# Altium footprint library EISI.PcbLib: 695 footprints (part 1 of 44)
Each footprint in its own frame and in the unit in brackets; x right, y up, seen from the top. Pads: shape width x height; smd on the part's side, far side on the other; paste and mask are expansions set on the pad; w line width, h text height; cw(c..) or ccw(c..) is an arc to the next point about the centre after c.
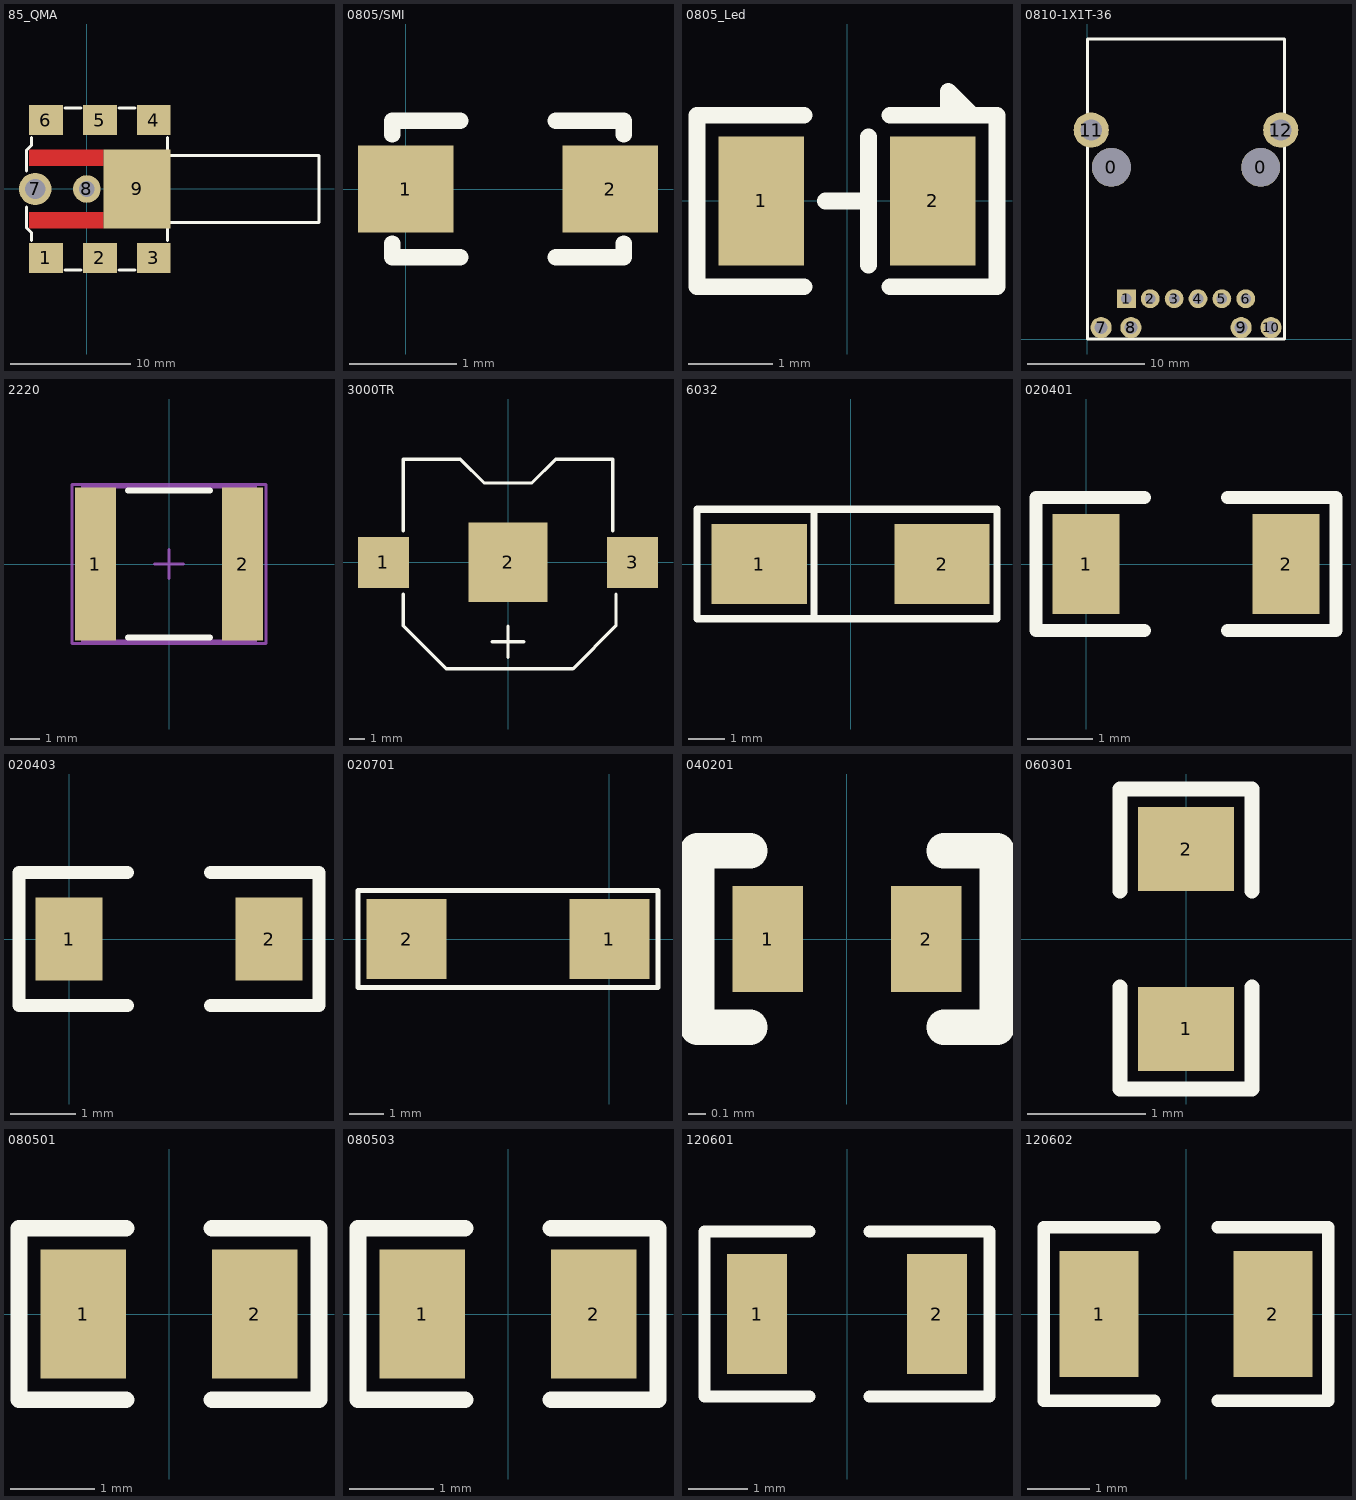
[diagram p0: the footprints below, top view; thin cyan lines are the x and y axes]

## 85_QMA [mm] "QMA connector right angle PCB jack"
height 7.8
pads (9):
  rect 2.8x2.5 smd: 1(-3.4,-5.75) 2(1.1,-5.75) 3(5.6,-5.75) 4(5.6,5.75) 5(1.1,5.75) 6(-3.4,5.75)
  round 2.7 hole 1.7: 7(-4.3,0)
  round 2.3 hole 1.3: 8(0,0)
  rect 5.6x6.6 smd: 9(4.2,0)
TopLayer:
  rectangle: -4.8,1.9 1.4,3.3
  rectangle: -4.8,-3.3 1.4,-1.9
TopOverlay:
  lines w0.25: -5.04,-1.5 -5.04,-3.2 -4.6,-3.64 -4.6,-4.3 ; -5.04,1.5 -5.04,3.2 -4.6,3.64 -4.6,4.3 ; -1.8,-6.75 -0.5,-6.75 ; -1.8,6.75 -0.5,6.75 ; 2.7,-6.75 4,-6.75 ; 2.7,6.75 4,6.75 ; 6.71,-4.3 6.71,-2.8 19.36,-2.8 19.36,2.8 6.71,2.8 6.71,4.3
TopSolder:
  rectangle: -4.9,-3.4 1.3,-1.8
  rectangle: -4.9,1.8 1.3,3.4

## 0805/SMI [mil]
pads (2):
  rect 35x32 smd: 1(0,0) 2(75,0)
TopOverlay:
  lines w6: -5,-20 -5,-25 20,-25 ; -5,20 -5,25 20,25 ; 55,-25 80,-25 80,-20 ; 55,25 80,25 80,20

## 0805_Led [mil] "0805 pour LED SMD"
height 31.5
pads (2):
  rect 40x60 smd: 1(-40,0) 2(40,0)
TopOverlay:
  lines w7.87: -20,-40 -70,-40 -70,40 -20,40 ; -10,0 10,0 ; 10,-30 10,30 ; 20,-40 70,-40 70,40 20,40 ; 47.24,40 47.24,51.18 58.43,40 59.06,40

## 0810-1X1T-36 [mm] "Connecteur Ethernet"
pads (14):
  round 3.3 hole 3.3 unplated: 0(2.05,14.61) 0(14.75,14.61)
  rect 1.6x1.6 hole 0.9: 1(3.32,3.43)
  round 1.6 hole 0.9: 2(5.352,3.43) 3(7.384,3.43) 4(9.416,3.43) 5(11.448,3.43) 6(13.48,3.43)
  round 1.8 hole 1.1: 7(1.17,0.97) 8(3.71,0.97) 9(13.09,0.97) 10(15.63,0.97)
  round 3 hole 1.8: 11(0.33,17.78) 12(16.46,17.78)
TopOverlay:
  lines w0.254: 0,0 0,25.53 16.79,25.53 16.79,0 0,0

## 2220 [mm] "Chip Capacitor, Body 5.7x5.0mm, IPC High Density"
height 1.4
pads (2):
  rect 1.4x5.2 smd: 1(-2.5,0) 2(2.5,0)
TopOverlay:
  lines w0.2: -1.4,-2.5 1.4,-2.5 ; -1.4,2.5 1.4,2.5
Mechanical13:
  lines w0.1: -2.95,-2.625 -2.95,2.625 2.95,2.625 2.95,-2.625 -2.95,-2.625
Mechanical15:
  lines w0.1: -0.5,0 0.5,0 ; 0,-0.5 0,0.5 ; -3.3,-2.7 -3.3,2.7 3.3,2.7 3.3,-2.7 -3.3,-2.7
3D body: height 1.4, standoff 0, extent -2.95,-2.625 2.95,2.625

## 3000TR [mm] "HOLDER BATTERY COIN 12MM DIA SMD"
height 3.2
pads (3):
  rect 3.2x3.2 smd: 1(-7.85,0) 3(7.85,0)
  rect 5x5 smd: 2(0,0)
TopOverlay:
  lines w0.2: -6.6,-2 -6.6,-4 -3.9,-6.7 -2,-6.7 2,-6.7 4.1,-6.7 6.8,-4 6.8,-2 ; -6.6,2 -6.6,6.5 -3,6.5 -1.5,5 1.5,5 3,6.5 6.6,6.5 6.6,2 ; -1,-5 1,-5 ; 0,-6 0,-4

## 6032 [mm]
pads (2):
  rect 2.6x2.2 smd: 1(-2.506,0.001) 2(2.494,0.001)
TopOverlay:
  lines w0.2: -1.006,-1.499 -1.006,1.501 ; -4.206,-1.499 3.694,-1.499 3.994,-1.499 3.994,1.501 3.694,1.501 -4.206,1.501 -4.206,-1.499

## 020401 [mil]
pads (2):
  rect 40x60 smd: 1(0,0) 2(120,0)
TopOverlay:
  lines w7.87: 35,-40 -30,-40 -30,40 35,40 ; 85,-40 150,-40 150,40 85,40

## 020403 [mil]
pads (2):
  rect 40x50 smd: 1(0,0) 2(120,0)
TopOverlay:
  lines w7.87: 35,-40 -30,-40 -30,40 35,40 ; 85,-40 150,-40 150,40 85,40

## 020701 [mil]
pads (2):
  rect 91x91 smd: 1(0,0) 2(-230,0)
TopOverlay:
  lines w6: -285,-55 -285,55 55,55 55,-55 -285,-55

## 040201 [mm] "0402"
height 0.35
pads (2):
  rect 0.4x0.6 smd: 1(-0.45,0) 2(0.45,0)
TopOverlay:
  lines w0.2: -0.55,-0.5 -0.85,-0.5 -0.85,0.5 -0.55,0.5 ; 0.55,-0.5 0.85,-0.5 0.85,0.5 0.55,0.5

## 060301 [mil]
pads (2):
  rect 32.01x27.99 smd: 1(0,-30) 2(0,30)
TopOverlay:
  lines w5: -22,-16 -22,-50 22,-50 22,-16 ; -22,16 -22,50 22,50 22,16

## 080501 [mil]
pads (2):
  rect 40x60 smd: 1(-40,0) 2(40,0)
TopOverlay:
  lines w7.87: -20,-40 -70,-40 -70,40 -20,40 ; 20,-40 70,-40 70,40 20,40

## 080503 [mil]
pads (2):
  rect 40x60 smd: 1(-40,0) 2(40,0)
TopOverlay:
  lines w7.87: -20,-40 -70,-40 -70,40 -20,40 ; 20,-40 70,-40 70,40 20,40

## 120601 [mil]
pads (2):
  rect 40x80 smd: 1(-60,0) 2(60,0)
TopOverlay:
  lines w7.87: -25,-55 -95,-55 -95,-45 -95,55 -25,55 ; 15,-55 95,-55 95,55 15,55

## 120602 [mil]
pads (2):
  rect 50x80 smd: 1(-55,0) 2(55,0)
TopOverlay:
  lines w7.87: -20,-55 -90,-55 -90,-45 -90,55 -20,55 ; 20,-55 90,-55 90,55 20,55